# Altium integrated library Renesas Transistor.IntLib: 835 symbols (part 13 of 18)
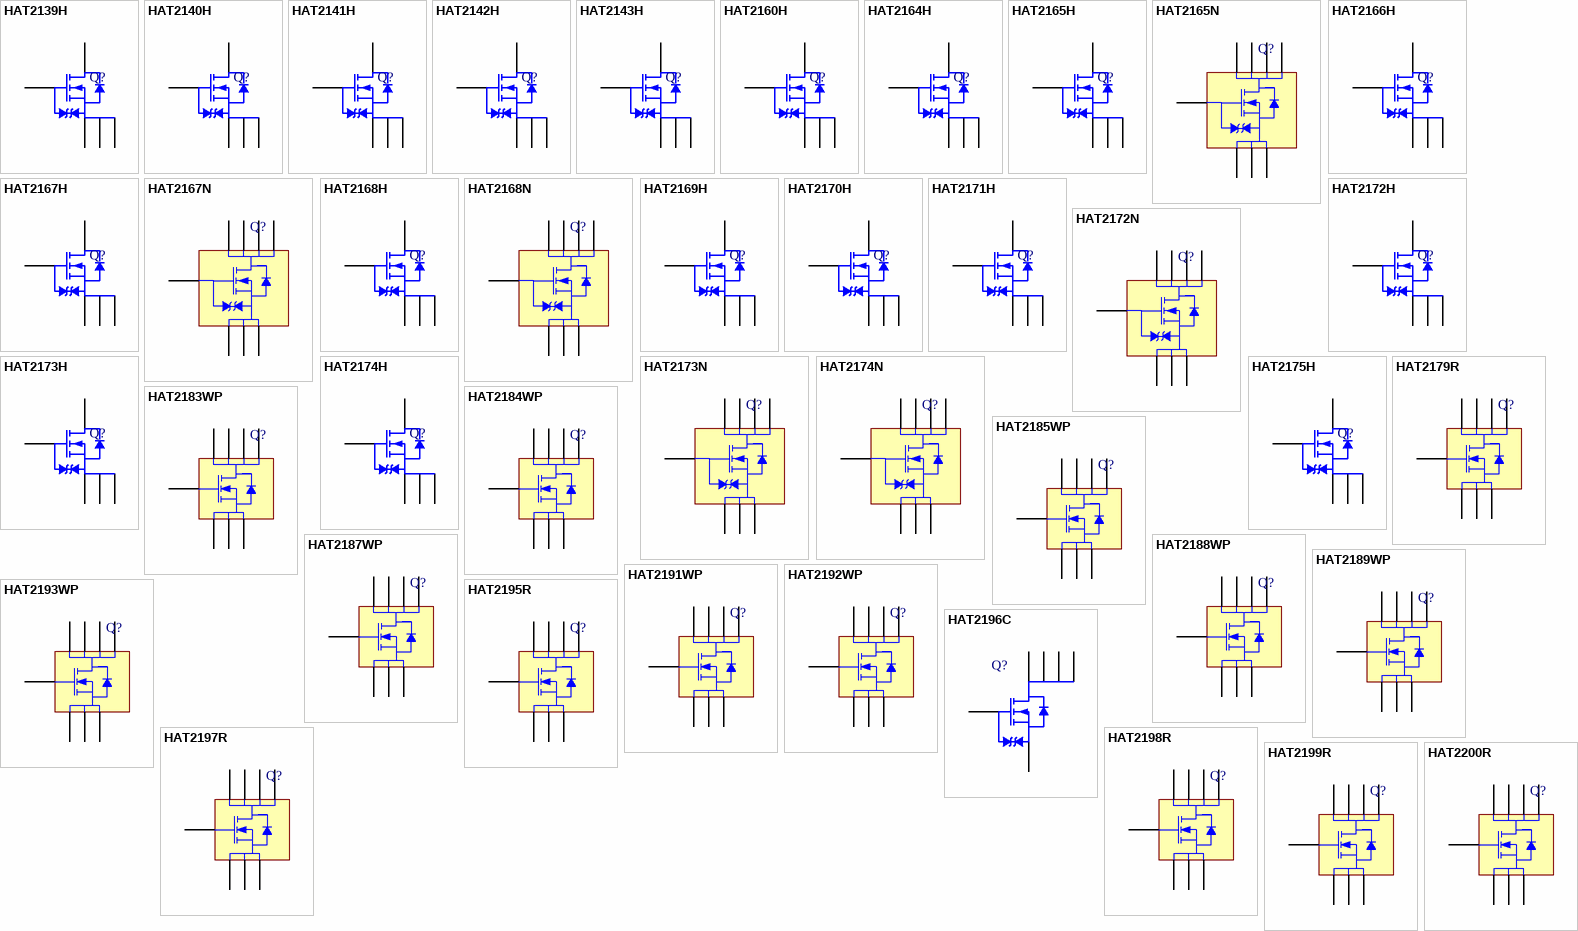
[diagram p34: symbols HAT2139H to HAT2200R]

## HAT2172N
designator Q?
Silicon N-Channel Power MOSFET, Power Switching; Published: 30-Oct-2009; DatasheetVersion: Rev.1.00, May-2008; PackageVersion: Jul-2006; PackageReference: PTSP0008DC-A; Publisher: Altium Limited; PackageDescription: 8-Pin Plastic Small Outline Integrated Circuit 1.27 mm Pitch (LFPAK-i); Supplier 1: Digi-Key; Supplier Part Number 1: HAT2172N-ND; ComponentLink1Description: Manufacturer Link; ComponentLink1URL: http://sg.renesas.com/fmwk.jsp?cnt=discrete_category_landing.jsp&fp=/products/discrete/; ComponentLink2Description: Datasheet; ComponentLink2URL: http://documentation.renesas.com/eng/products/transistor/rej03g1683_hat2172nsds.pdf; ComponentLink3Description: Packaging Specification; ComponentLink3URL: http://sg.renesas.com/media/products/common_info/package/pdf/transistor/code/ptsp0008dc_a.pdf
footprint PTSP0008DC-A_N (SOIC, 8-Leads, Body 4.9x3.95mm, Pitch 1.27mm, IPC Medium Density)
footprint PTSP0008DC-A_L (SOIC, 8-Leads, Body 4.9x3.95mm, Pitch 1.27mm, IPC High Density)
footprint PTSP0008DC-A_M (SOIC, 8-Leads, Body 4.9x3.95mm, Pitch 1.27mm, IPC Low Density)
pins: 1 S, 2 S, 3 S, 4 G, 5 D, 6 D, 7 D, 8 D

## HAT2173H
designator Q?
Silicon N-Channel Power MOSFET, Power Switching; Published: 30-Oct-2009; DatasheetVersion: Rev.2.00, Sep-2005; PackageVersion: Sep-2005; PackageReference: PTZZ0005DA-A; Publisher: Altium Limited; PackageDescription: 5-Pin Plastic Transistor Outline Package 4 x 4.9 mm Body (LFPAK); Supplier 1: Digi-Key; Supplier Part Number 1: HAT2173H-ND; Code_JEITA: SC-100; ComponentLink1Description: Manufacturer Link; ComponentLink1URL: http://sg.renesas.com/fmwk.jsp?cnt=discrete_category_landing.jsp&fp=/products/discrete/; ComponentLink2Description: Datasheet; ComponentLink2URL: http://documentation.renesas.com/eng/products/transistor/rej03g0030_hat2173h.pdf; ComponentLink3Description: Packaging Specification; ComponentLink3URL: http://sg.renesas.com/media/products/common_info/package/pdf/transistor/code/ptzz0005da_a.pdf
footprint PTZZ0005DA-A_N (TO, 5-Leads, Body 4x4.9mm, Pitch 1.27mm, Lead Span 6mm, IPC Medium Density)
footprint PTZZ0005DA-A_L (TO, 5-Leads, Body 4x4.9mm, Pitch 1.27mm, Lead Span 6mm, IPC High Density)
footprint PTZZ0005DA-A_M (TO, 5-Leads, Body 4x4.9mm, Pitch 1.27mm, Lead Span 6mm, IPC Low Density)
pins: 1 S, 2 S, 3 S, 4 G, 5 D

## HAT2173N
designator Q?
Silicon N-Channel Power MOSFET, Power Switching; Published: 30-Oct-2009; DatasheetVersion: Rev.1.00, May-2008; PackageVersion: Jul-2006; PackageReference: PTSP0008DC-A; Publisher: Altium Limited; PackageDescription: 8-Pin Plastic Small Outline Integrated Circuit 1.27 mm Pitch (LFPAK-i); Supplier 1: Digi-Key; Supplier Part Number 1: HAT2173N-ND; ComponentLink1Description: Manufacturer Link; ComponentLink1URL: http://sg.renesas.com/fmwk.jsp?cnt=discrete_category_landing.jsp&fp=/products/discrete/; ComponentLink2Description: Datasheet; ComponentLink2URL: http://documentation.renesas.com/eng/products/transistor/rej03g1684_hat2173nds.pdf; ComponentLink3Description: Packaging Specification; ComponentLink3URL: http://sg.renesas.com/media/products/common_info/package/pdf/transistor/code/ptsp0008dc_a.pdf
footprint PTSP0008DC-A_N (SOIC, 8-Leads, Body 4.9x3.95mm, Pitch 1.27mm, IPC Medium Density)
footprint PTSP0008DC-A_L (SOIC, 8-Leads, Body 4.9x3.95mm, Pitch 1.27mm, IPC High Density)
footprint PTSP0008DC-A_M (SOIC, 8-Leads, Body 4.9x3.95mm, Pitch 1.27mm, IPC Low Density)
pins: 1 S, 2 S, 3 S, 4 G, 5 D, 6 D, 7 D, 8 D

## HAT2174H
designator Q?
Silicon N-Channel Power MOSFET, Power Switching; Published: 30-Oct-2009; DatasheetVersion: Rev.4.00, Dec-2006; PackageVersion: Sep-2005; PackageReference: PTZZ0005DA-A; Publisher: Altium Limited; PackageDescription: 5-Pin Plastic Transistor Outline Package 4 x 4.9 mm Body (LFPAK); Supplier 1: Digi-Key; Supplier Part Number 1: HAT2174H-ND; Code_JEITA: SC-100; ComponentLink1Description: Manufacturer Link; ComponentLink1URL: http://sg.renesas.com/fmwk.jsp?cnt=discrete_category_landing.jsp&fp=/products/discrete/; ComponentLink2Description: Datasheet; ComponentLink2URL: http://documentation.renesas.com/eng/products/transistor/rej03g0041_hat2174h.pdf; ComponentLink3Description: Packaging Specification; ComponentLink3URL: http://sg.renesas.com/media/products/common_info/package/pdf/transistor/code/ptzz0005da_a.pdf
footprint PTZZ0005DA-A_N (TO, 5-Leads, Body 4x4.9mm, Pitch 1.27mm, Lead Span 6mm, IPC Medium Density)
footprint PTZZ0005DA-A_L (TO, 5-Leads, Body 4x4.9mm, Pitch 1.27mm, Lead Span 6mm, IPC High Density)
footprint PTZZ0005DA-A_M (TO, 5-Leads, Body 4x4.9mm, Pitch 1.27mm, Lead Span 6mm, IPC Low Density)
pins: 1 S, 2 S, 3 S, 4 G, 5 D

## HAT2174N
designator Q?
Silicon N-Channel Power MOSFET, Power Switching; Published: 30-Oct-2009; DatasheetVersion: Rev.2.00, May-2008; PackageVersion: Jul-2006; PackageReference: PTSP0008DC-A; Publisher: Altium Limited; PackageDescription: 8-Pin Plastic Small Outline Integrated Circuit 1.27 mm Pitch (LFPAK-i); ComponentLink1Description: Manufacturer Link; ComponentLink1URL: http://sg.renesas.com/fmwk.jsp?cnt=discrete_category_landing.jsp&fp=/products/discrete/; ComponentLink2Description: Datasheet; ComponentLink2URL: http://documentation.renesas.com/eng/products/transistor/rej03g1685_hat2174nsds.pdf; ComponentLink3Description: Packaging Specification; ComponentLink3URL: http://sg.renesas.com/media/products/common_info/package/pdf/transistor/code/ptsp0008dc_a.pdf
footprint PTSP0008DC-A_N (SOIC, 8-Leads, Body 4.9x3.95mm, Pitch 1.27mm, IPC Medium Density)
footprint PTSP0008DC-A_L (SOIC, 8-Leads, Body 4.9x3.95mm, Pitch 1.27mm, IPC High Density)
footprint PTSP0008DC-A_M (SOIC, 8-Leads, Body 4.9x3.95mm, Pitch 1.27mm, IPC Low Density)
pins: 1 S, 2 S, 3 S, 4 G, 5 D, 6 D, 7 D, 8 D

## HAT2175H
designator Q?
Silicon N-Channel Power MOSFET, Power Switching; Published: 30-Oct-2009; DatasheetVersion: Rev.4.00, Sep-2005; PackageVersion: Sep-2005; PackageReference: PTZZ0005DA-A; Publisher: Altium Limited; PackageDescription: 5-Pin Plastic Transistor Outline Package 4 x 4.9 mm Body (LFPAK); Code_JEITA: SC-100; ComponentLink1Description: Manufacturer Link; ComponentLink1URL: http://sg.renesas.com/fmwk.jsp?cnt=discrete_category_landing.jsp&fp=/products/discrete/; ComponentLink2Description: Datasheet; ComponentLink2URL: http://documentation.renesas.com/eng/products/transistor/rej03g0006_hat2175h.pdf; ComponentLink3Description: Packaging Specification; ComponentLink3URL: http://sg.renesas.com/media/products/common_info/package/pdf/transistor/code/ptzz0005da_a.pdf
footprint PTZZ0005DA-A_N (TO, 5-Leads, Body 4x4.9mm, Pitch 1.27mm, Lead Span 6mm, IPC Medium Density)
footprint PTZZ0005DA-A_L (TO, 5-Leads, Body 4x4.9mm, Pitch 1.27mm, Lead Span 6mm, IPC High Density)
footprint PTZZ0005DA-A_M (TO, 5-Leads, Body 4x4.9mm, Pitch 1.27mm, Lead Span 6mm, IPC Low Density)
pins: 1 S, 2 S, 3 S, 4 G, 5 D

## HAT2179R
designator Q?
Silicon N-Channel MOSFET, High Speed Power Switching; Published: 30-Oct-2009; DatasheetVersion: Rev.2.00, Jul-2009; PackageVersion: Sep-2005; PackageReference: PRSP0008DD-D; Publisher: Altium Limited; PackageDescription: 8-Pin Plastic Small Outline Integrated Circuit 1.27 mm Pitch (SOP-8); Code_IPC: SOIC127P600-8; ComponentLink1Description: Manufacturer Link; ComponentLink1URL: http://sg.renesas.com/fmwk.jsp?cnt=discrete_category_landing.jsp&fp=/products/discrete/; ComponentLink2Description: Datasheet; ComponentLink2URL: http://documentation.renesas.com/eng/products/transistor/rej03g1570_hat2179rds.pdf; ComponentLink3Description: Packaging Specification; ComponentLink3URL: http://sg.renesas.com/media/products/common_info/package/pdf/transistor/code/prsp0008dd_d.pdf
footprint PRSP0008DD-D_N (SOIC, 8-Leads, Body 4.9x3.95mm, Pitch 1.27mm, IPC Medium Density)
footprint PRSP0008DD-D_L (SOIC, 8-Leads, Body 4.9x3.95mm, Pitch 1.27mm, IPC High Density)
footprint PRSP0008DD-D_M (SOIC, 8-Leads, Body 4.9x3.95mm, Pitch 1.27mm, IPC Low Density)
pins: 1 S, 2 S, 3 S, 4 G, 5 D, 6 D, 7 D, 8 D

## HAT2183WP
designator Q?
Silicon N-Channel Power MOSFET, Power Switching; Published: 30-Oct-2009; DatasheetVersion: Rev.5.00, Oct-2005; PackageVersion: Feb-2006; PackageReference: PWSN0008DA-A; Publisher: Altium Limited; PackageDescription: 8-Pin Plastic Very-very Thin Small Outline No Lead Package, 5.1 x 6.1 x 0.8mm Body, 1.27mm Pitch (WPAK); Supplier 1: Digi-Key; Supplier Part Number 1: HAT2183WP-ND; ComponentLink1Description: Manufacturer Link; ComponentLink1URL: http://sg.renesas.com/fmwk.jsp?cnt=discrete_category_landing.jsp&fp=/products/discrete/; ComponentLink2Description: Datasheet; ComponentLink2URL: http://documentation.renesas.com/eng/products/transistor/rej03g0530_hat2183wp.pdf; ComponentLink3Description: Packaging Specification; ComponentLink3URL: http://sg.renesas.com/media/products/common_info/package/pdf/transistor/code/pwsn0008da_a.pdf
footprint PWSN0008DA-A (SON, 8-Leads, Body 5.1x6.1mm, Pitch 1.27mm, Heatsink)
pins: 1 S, 2 S, 3 S, 4 G, 5 D, 6 D, 7 D, 8 D

## HAT2184WP
designator Q?
Silicon N-Channel Power MOSFET, Power Switching; Published: 30-Oct-2009; DatasheetVersion: Rev.5.00, Nov-2006; PackageVersion: Feb-2006; PackageReference: PWSN0008DA-A; Publisher: Altium Limited; PackageDescription: 8-Pin Plastic Very-very Thin Small Outline No Lead Package, 5.1 x 6.1 x 0.8mm Body, 1.27mm Pitch (WPAK); ComponentLink1Description: Manufacturer Link; ComponentLink1URL: http://sg.renesas.com/fmwk.jsp?cnt=discrete_category_landing.jsp&fp=/products/discrete/; ComponentLink2Description: Datasheet; ComponentLink2URL: http://documentation.renesas.com/eng/products/transistor/rej03g0536_hat2184wp.pdf; ComponentLink3Description: Packaging Specification; ComponentLink3URL: http://sg.renesas.com/media/products/common_info/package/pdf/transistor/code/pwsn0008da_a.pdf
footprint PWSN0008DA-A (SON, 8-Leads, Body 5.1x6.1mm, Pitch 1.27mm, Heatsink)
pins: 1 S, 2 S, 3 S, 4 G, 5 D, 6 D, 7 D, 8 D

## HAT2185WP
designator Q?
Silicon N-Channel Power MOSFET, Power Switching; Published: 30-Oct-2009; DatasheetVersion: Rev.2.00, Nov-2008; PackageVersion: Feb-2006; PackageReference: PWSN0008DA-A; Publisher: Altium Limited; PackageDescription: 8-Pin Plastic Very-very Thin Small Outline No Lead Package, 5.1 x 6.1 x 0.8mm Body, 1.27mm Pitch (WPAK); ComponentLink1Description: Manufacturer Link; ComponentLink1URL: http://sg.renesas.com/fmwk.jsp?cnt=discrete_category_landing.jsp&fp=/products/discrete/; ComponentLink2Description: Datasheet; ComponentLink2URL: http://documentation.renesas.com/eng/products/transistor/rej03g1744_hat2185wpds.pdf; ComponentLink3Description: Packaging Specification; ComponentLink3URL: http://sg.renesas.com/media/products/common_info/package/pdf/transistor/code/pwsn0008da_a.pdf
footprint PWSN0008DA-A (SON, 8-Leads, Body 5.1x6.1mm, Pitch 1.27mm, Heatsink)
pins: 1 S, 2 S, 3 S, 4 G, 5 D, 6 D, 7 D, 8 D

## HAT2187WP
designator Q?
Silicon N-Channel Power MOSFET, Power Switching; Published: 30-Oct-2009; DatasheetVersion: Rev.4.00, Feb-2005; PackageVersion: Feb-2006; PackageReference: PWSN0008DA-A; Publisher: Altium Limited; PackageDescription: 8-Pin Plastic Very-very Thin Small Outline No Lead Package, 5.1 x 6.1 x 0.8mm Body, 1.27mm Pitch (WPAK); ComponentLink1Description: Manufacturer Link; ComponentLink1URL: http://sg.renesas.com/fmwk.jsp?cnt=discrete_category_landing.jsp&fp=/products/discrete/; ComponentLink2Description: Datasheet; ComponentLink2URL: http://documentation.renesas.com/eng/products/transistor/rej03g0535_hat2187wp.pdf; ComponentLink3Description: Packaging Specification; ComponentLink3URL: http://sg.renesas.com/media/products/common_info/package/pdf/transistor/code/pwsn0008da_a.pdf
footprint PWSN0008DA-A (SON, 8-Leads, Body 5.1x6.1mm, Pitch 1.27mm, Heatsink)
pins: 1 S, 2 S, 3 S, 4 G, 5 D, 6 D, 7 D, 8 D

## HAT2188WP
designator Q?
Silicon N-Channel Power MOSFET, Power Switching; Published: 30-Oct-2009; DatasheetVersion: Rev.5.00, Mar-2005; PackageVersion: Feb-2006; PackageReference: PWSN0008DA-A; Publisher: Altium Limited; PackageDescription: 8-Pin Plastic Very-very Thin Small Outline No Lead Package, 5.1 x 6.1 x 0.8mm Body, 1.27mm Pitch (WPAK); ComponentLink1Description: Manufacturer Link; ComponentLink1URL: http://sg.renesas.com/fmwk.jsp?cnt=discrete_category_landing.jsp&fp=/products/discrete/; ComponentLink2Description: Datasheet; ComponentLink2URL: http://documentation.renesas.com/eng/products/transistor/rej03g0534_hat2188wp.pdf; ComponentLink3Description: Packaging Specification; ComponentLink3URL: http://sg.renesas.com/media/products/common_info/package/pdf/transistor/code/pwsn0008da_a.pdf
footprint PWSN0008DA-A (SON, 8-Leads, Body 5.1x6.1mm, Pitch 1.27mm, Heatsink)
pins: 1 S, 2 S, 3 S, 4 G, 5 D, 6 D, 7 D, 8 D

## HAT2189WP
designator Q?
Silicon N-Channel Power MOSFET, Power Switching; Published: 30-Oct-2009; DatasheetVersion: Rev.1.00, Aug-2005; PackageVersion: Feb-2006; PackageReference: PWSN0008DA-A; Publisher: Altium Limited; PackageDescription: 8-Pin Plastic Very-very Thin Small Outline No Lead Package, 5.1 x 6.1 x 0.8mm Body, 1.27mm Pitch (WPAK); ComponentLink1Description: Manufacturer Link; ComponentLink1URL: http://sg.renesas.com/fmwk.jsp?cnt=discrete_category_landing.jsp&fp=/products/discrete/; ComponentLink2Description: Datasheet; ComponentLink2URL: http://documentation.renesas.com/eng/products/transistor/rej03g1251_hat2189wp.pdf; ComponentLink3Description: Packaging Specification; ComponentLink3URL: http://sg.renesas.com/media/products/common_info/package/pdf/transistor/code/pwsn0008da_a.pdf
footprint PWSN0008DA-A (SON, 8-Leads, Body 5.1x6.1mm, Pitch 1.27mm, Heatsink)
pins: 1 S, 2 S, 3 S, 4 G, 5 D, 6 D, 7 D, 8 D

## HAT2191WP
designator Q?
Silicon N-Channel Power MOSFET, Power Switching; Published: 30-Oct-2009; DatasheetVersion: Rev.5.00, Jun-2005; PackageVersion: Feb-2006; PackageReference: PWSN0008DA-A; Publisher: Altium Limited; PackageDescription: 8-Pin Plastic Very-very Thin Small Outline No Lead Package, 5.1 x 6.1 x 0.8mm Body, 1.27mm Pitch (WPAK); ComponentLink1Description: Manufacturer Link; ComponentLink1URL: http://sg.renesas.com/fmwk.jsp?cnt=discrete_category_landing.jsp&fp=/products/discrete/; ComponentLink2Description: Datasheet; ComponentLink2URL: http://documentation.renesas.com/eng/products/transistor/rej03g1223_hat2191wp.pdf; ComponentLink3Description: Packaging Specification; ComponentLink3URL: http://sg.renesas.com/media/products/common_info/package/pdf/transistor/code/pwsn0008da_a.pdf
footprint PWSN0008DA-A (SON, 8-Leads, Body 5.1x6.1mm, Pitch 1.27mm, Heatsink)
pins: 1 S, 2 S, 3 S, 4 G, 5 D, 6 D, 7 D, 8 D

## HAT2192WP
designator Q?
Silicon N-Channel Power MOSFET, Power Switching; Published: 30-Oct-2009; DatasheetVersion: Rev.1.00, Feb-2005; PackageVersion: Feb-2006; PackageReference: PWSN0008DA-A; Publisher: Altium Limited; PackageDescription: 8-Pin Plastic Very-very Thin Small Outline No Lead Package, 5.1 x 6.1 x 0.8mm Body, 1.27mm Pitch (WPAK); ComponentLink1Description: Manufacturer Link; ComponentLink1URL: http://sg.renesas.com/fmwk.jsp?cnt=discrete_category_landing.jsp&fp=/products/discrete/; ComponentLink2Description: Datasheet; ComponentLink2URL: http://documentation.renesas.com/eng/products/transistor/rej03g0533_hat2192wp.pdf; ComponentLink3Description: Packaging Specification; ComponentLink3URL: http://sg.renesas.com/media/products/common_info/package/pdf/transistor/code/pwsn0008da_a.pdf
footprint PWSN0008DA-A (SON, 8-Leads, Body 5.1x6.1mm, Pitch 1.27mm, Heatsink)
pins: 1 S, 2 S, 3 S, 4 G, 5 D, 6 D, 7 D, 8 D

## HAT2193WP
designator Q?
Silicon N-Channel Power MOSFET, Power Switching; Published: 30-Oct-2009; DatasheetVersion: Rev.2.00, Jun-2009; PackageVersion: Feb-2006; PackageReference: PWSN0008DA-A; Publisher: Altium Limited; PackageDescription: 8-Pin Plastic Very-very Thin Small Outline No Lead Package, 5.1 x 6.1 x 0.8mm Body, 1.27mm Pitch (WPAK); ComponentLink1Description: Manufacturer Link; ComponentLink1URL: http://sg.renesas.com/fmwk.jsp?cnt=discrete_category_landing.jsp&fp=/products/discrete/; ComponentLink2Description: Datasheet; ComponentLink2URL: http://documentation.renesas.com/eng/products/transistor/rej03g1252_hat2193wp.pdf; ComponentLink3Description: Packaging Specification; ComponentLink3URL: http://sg.renesas.com/media/products/common_info/package/pdf/transistor/code/pwsn0008da_a.pdf
footprint PWSN0008DA-A (SON, 8-Leads, Body 5.1x6.1mm, Pitch 1.27mm, Heatsink)
pins: 1 S, 2 S, 3 S, 4 G, 5 D, 6 D, 7 D, 8 D

## HAT2195R
designator Q?
Silicon N-Channel Power MOSFET, Power Switching; Published: 30-Oct-2009; DatasheetVersion: Rev.3.00, Apr-2004; PackageVersion: Sep-2005; PackageReference: PRSP0008DD-A; Publisher: Altium Limited; PackageDescription: 8-Pin Plastic Small Outline Integrated Circuit 1.27 mm Pitch (SOP-8); Supplier 1: Digi-Key; Supplier Part Number 1: HAT2195R-ND; Code_IPC: SOIC127P600-8; ComponentLink1Description: Manufacturer Link; ComponentLink1URL: http://sg.renesas.com/fmwk.jsp?cnt=discrete_category_landing.jsp&fp=/products/discrete/; ComponentLink2Description: Datasheet; ComponentLink2URL: http://documentation.renesas.com/eng/products/transistor/rej03g0060_hat2195r.pdf; ComponentLink3Description: Packaging Specification; ComponentLink3URL: http://sg.renesas.com/media/products/common_info/package/pdf/transistor/code/prsp0008dd_a.pdf
footprint PRSP0008DD-A_N (SOIC, 8-Leads, Body 4.9x3.95mm, Pitch 1.27mm, IPC Medium Density)
footprint PRSP0008DD-A_L (SOIC, 8-Leads, Body 4.9x3.95mm, Pitch 1.27mm, IPC High Density)
footprint PRSP0008DD-A_M (SOIC, 8-Leads, Body 4.9x3.95mm, Pitch 1.27mm, IPC Low Density)
pins: 1 S, 2 S, 3 S, 4 G, 5 D, 6 D, 7 D, 8 D

## HAT2196C
designator Q?
Silicon N-Channel MOSFET, Power Switching; Published: 30-Oct-2009; DatasheetVersion: Rev.5.00, Jun-2005; PackageVersion: Jul-2006; PackageReference: PWSF0006JA-A; Publisher: Altium Limited; PackageDescription: 6-Pin Plastic Dual Lead-Flat Package 0.65 mm Pitch (CMFPAK-6); ComponentLink1Description: Manufacturer Link; ComponentLink1URL: http://sg.renesas.com/fmwk.jsp?cnt=discrete_category_landing.jsp&fp=/products/discrete/; ComponentLink2Description: Datasheet; ComponentLink2URL: http://documentation.renesas.com/eng/products/transistor/rej03g1235_hat2196c.pdf; ComponentLink3Description: Packaging Specification; ComponentLink3URL: http://sg.renesas.com/media/products/common_info/package/pdf/transistor/code/pwsf0006ja_a.pdf
footprint PWSF0006JA-A (SOP, 6-Flat Leads, Body 2x1.7x0.8mm, Pitch 0.65mm)
pins: 1 S, 2 D, 3 D, 4 D, 5 D, 6 G

## HAT2197R
designator Q?
Silicon N-Channel Power MOSFET, Power Switching; Published: 30-Oct-2009; DatasheetVersion: Rev.2.00, Apr-2004; PackageVersion: Sep-2005; PackageReference: PRSP0008DD-A; Publisher: Altium Limited; PackageDescription: 8-Pin Plastic Small Outline Integrated Circuit 1.27 mm Pitch (SOP-8); Supplier 1: Digi-Key; Supplier Part Number 1: HAT2197R-ND; Code_IPC: SOIC127P600-8; ComponentLink1Description: Manufacturer Link; ComponentLink1URL: http://sg.renesas.com/fmwk.jsp?cnt=discrete_category_landing.jsp&fp=/products/discrete/; ComponentLink2Description: Datasheet; ComponentLink2URL: http://documentation.renesas.com/eng/products/transistor/rej03g0061_hat2197r.pdf; ComponentLink3Description: Packaging Specification; ComponentLink3URL: http://sg.renesas.com/media/products/common_info/package/pdf/transistor/code/prsp0008dd_a.pdf
footprint PRSP0008DD-A_N (SOIC, 8-Leads, Body 4.9x3.95mm, Pitch 1.27mm, IPC Medium Density)
footprint PRSP0008DD-A_L (SOIC, 8-Leads, Body 4.9x3.95mm, Pitch 1.27mm, IPC High Density)
footprint PRSP0008DD-A_M (SOIC, 8-Leads, Body 4.9x3.95mm, Pitch 1.27mm, IPC Low Density)
pins: 1 S, 2 S, 3 S, 4 G, 5 D, 6 D, 7 D, 8 D

## HAT2198R
designator Q?
Silicon N-Channel Power MOSFET, Power Switching; Published: 30-Oct-2009; DatasheetVersion: Rev.2.00, Oct-2004; PackageVersion: Sep-2005; PackageReference: PRSP0008DD-A; Publisher: Altium Limited; PackageDescription: 8-Pin Plastic Small Outline Integrated Circuit 1.27 mm Pitch (SOP-8); Supplier 1: Digi-Key; Supplier Part Number 1: HAT2198R-ND; Code_IPC: SOIC127P600-8; ComponentLink1Description: Manufacturer Link; ComponentLink1URL: http://sg.renesas.com/fmwk.jsp?cnt=discrete_category_landing.jsp&fp=/products/discrete/; ComponentLink2Description: Datasheet; ComponentLink2URL: http://documentation.renesas.com/eng/products/transistor/rej03g0062_hat2198r.pdf; ComponentLink3Description: Packaging Specification; ComponentLink3URL: http://sg.renesas.com/media/products/common_info/package/pdf/transistor/code/prsp0008dd_a.pdf
footprint PRSP0008DD-A_N (SOIC, 8-Leads, Body 4.9x3.95mm, Pitch 1.27mm, IPC Medium Density)
footprint PRSP0008DD-A_L (SOIC, 8-Leads, Body 4.9x3.95mm, Pitch 1.27mm, IPC High Density)
footprint PRSP0008DD-A_M (SOIC, 8-Leads, Body 4.9x3.95mm, Pitch 1.27mm, IPC Low Density)
pins: 1 S, 2 S, 3 S, 4 G, 5 D, 6 D, 7 D, 8 D

## HAT2199R
designator Q?
Silicon N-Channel Power MOSFET, Power Switching; Published: 30-Oct-2009; DatasheetVersion: Rev.3.00, Sep-2004; PackageVersion: Sep-2005; PackageReference: PRSP0008DD-A; Publisher: Altium Limited; PackageDescription: 8-Pin Plastic Small Outline Integrated Circuit 1.27 mm Pitch (SOP-8); Supplier 1: Digi-Key; Supplier Part Number 1: HAT2199R-ND; Code_IPC: SOIC127P600-8; ComponentLink1Description: Manufacturer Link; ComponentLink1URL: http://sg.renesas.com/fmwk.jsp?cnt=discrete_category_landing.jsp&fp=/products/discrete/; ComponentLink2Description: Datasheet; ComponentLink2URL: http://documentation.renesas.com/eng/products/transistor/rej03g0063_hat2199r.pdf; ComponentLink3Description: Packaging Specification; ComponentLink3URL: http://sg.renesas.com/media/products/common_info/package/pdf/transistor/code/prsp0008dd_a.pdf
footprint PRSP0008DD-A_N (SOIC, 8-Leads, Body 4.9x3.95mm, Pitch 1.27mm, IPC Medium Density)
footprint PRSP0008DD-A_L (SOIC, 8-Leads, Body 4.9x3.95mm, Pitch 1.27mm, IPC High Density)
footprint PRSP0008DD-A_M (SOIC, 8-Leads, Body 4.9x3.95mm, Pitch 1.27mm, IPC Low Density)
pins: 1 S, 2 S, 3 S, 4 G, 5 D, 6 D, 7 D, 8 D

## HAT2200R
designator Q?
Silicon N-Channel Power MOSFET, Power Switching; Published: 30-Oct-2009; DatasheetVersion: Rev.2.00, Apr-2004; PackageVersion: Sep-2005; PackageReference: PRSP0008DD-A; Publisher: Altium Limited; PackageDescription: 8-Pin Plastic Small Outline Integrated Circuit 1.27 mm Pitch (SOP-8); Supplier 1: Digi-Key; Supplier Part Number 1: HAT2200R-ND; Code_IPC: SOIC127P600-8; ComponentLink1Description: Manufacturer Link; ComponentLink1URL: http://sg.renesas.com/fmwk.jsp?cnt=discrete_category_landing.jsp&fp=/products/discrete/; ComponentLink2Description: Datasheet; ComponentLink2URL: http://documentation.renesas.com/eng/products/transistor/rej03g0232_hat2200r.pdf; ComponentLink3Description: Packaging Specification; ComponentLink3URL: http://sg.renesas.com/media/products/common_info/package/pdf/transistor/code/prsp0008dd_a.pdf
footprint PRSP0008DD-A_N (SOIC, 8-Leads, Body 4.9x3.95mm, Pitch 1.27mm, IPC Medium Density)
footprint PRSP0008DD-A_L (SOIC, 8-Leads, Body 4.9x3.95mm, Pitch 1.27mm, IPC High Density)
footprint PRSP0008DD-A_M (SOIC, 8-Leads, Body 4.9x3.95mm, Pitch 1.27mm, IPC Low Density)
pins: 1 S, 2 S, 3 S, 4 G, 5 D, 6 D, 7 D, 8 D

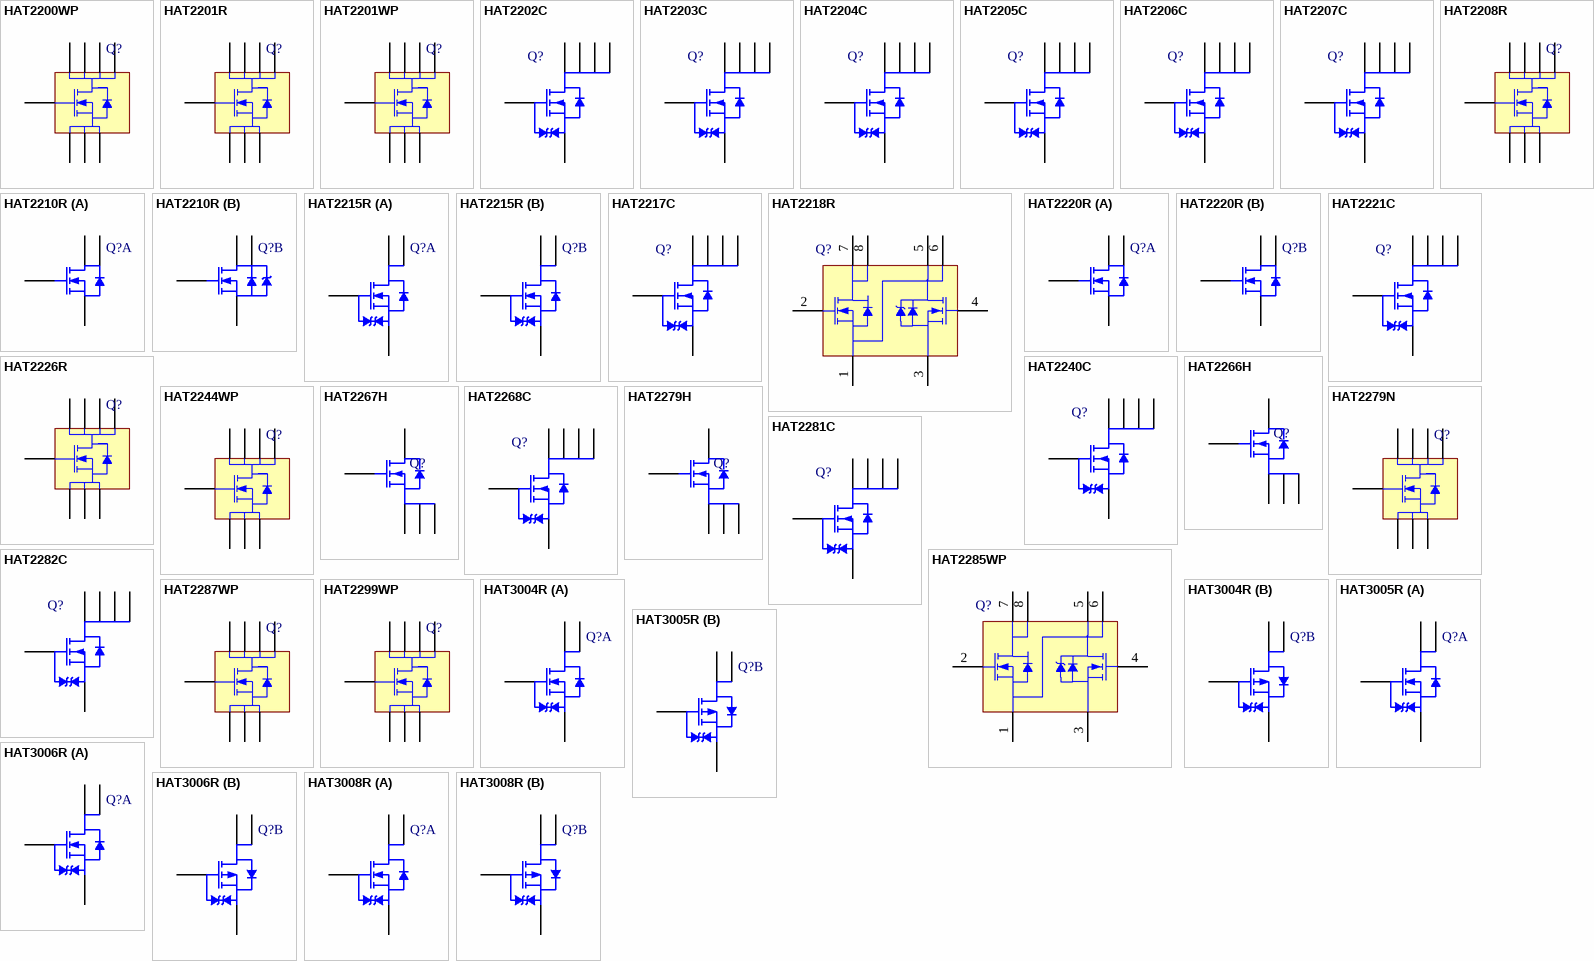
[diagram p16: symbols HAT2200WP to HAT3008R]

## HAT2200WP
designator Q?
Silicon N-Channel Power MOSFET, Power Switching; Published: 30-Oct-2009; DatasheetVersion: Rev.3.00, May-2008; PackageVersion: Feb-2006; PackageReference: PWSN0008DA-A; Publisher: Altium Limited; PackageDescription: 8-Pin Plastic Very-very Thin Small Outline No Lead Package, 5.1 x 6.1 x 0.8mm Body, 1.27mm Pitch (WPAK); Supplier 1: Digi-Key; Supplier Part Number 1: HAT2200WP-ND; ComponentLink1Description: Manufacturer Link; ComponentLink1URL: http://sg.renesas.com/fmwk.jsp?cnt=discrete_category_landing.jsp&fp=/products/discrete/; ComponentLink2Description: Datasheet; ComponentLink2URL: http://documentation.renesas.com/eng/products/transistor/rej03g1678_hat2200wpds.pdf; ComponentLink3Description: Packaging Specification; ComponentLink3URL: http://sg.renesas.com/media/products/common_info/package/pdf/transistor/code/pwsn0008da_a.pdf
footprint PWSN0008DA-A (SON, 8-Leads, Body 5.1x6.1mm, Pitch 1.27mm, Heatsink)
pins: 1 S, 2 S, 3 S, 4 G, 5 D, 6 D, 7 D, 8 D

## HAT2201R
designator Q?
Silicon N-Channel Power MOSFET, Power Switching; Published: 30-Oct-2009; DatasheetVersion: Rev.3.00, Apr-2004; PackageVersion: Sep-2005; PackageReference: PRSP0008DD-A; Publisher: Altium Limited; PackageDescription: 8-Pin Plastic Small Outline Integrated Circuit 1.27 mm Pitch (SOP-8); Supplier 1: Digi-Key; Supplier Part Number 1: HAT2201R-ND; Code_IPC: SOIC127P600-8; ComponentLink1Description: Manufacturer Link; ComponentLink1URL: http://sg.renesas.com/fmwk.jsp?cnt=discrete_category_landing.jsp&fp=/products/discrete/; ComponentLink2Description: Datasheet; ComponentLink2URL: http://documentation.renesas.com/eng/products/transistor/rej03g0233_hat2201r.pdf; ComponentLink3Description: Packaging Specification; ComponentLink3URL: http://sg.renesas.com/media/products/common_info/package/pdf/transistor/code/prsp0008dd_a.pdf
footprint PRSP0008DD-A_N (SOIC, 8-Leads, Body 4.9x3.95mm, Pitch 1.27mm, IPC Medium Density)
footprint PRSP0008DD-A_L (SOIC, 8-Leads, Body 4.9x3.95mm, Pitch 1.27mm, IPC High Density)
footprint PRSP0008DD-A_M (SOIC, 8-Leads, Body 4.9x3.95mm, Pitch 1.27mm, IPC Low Density)
pins: 1 S, 2 S, 3 S, 4 G, 5 D, 6 D, 7 D, 8 D

## HAT2201WP
designator Q?
Silicon N-Channel Power MOSFET, Power Switching; Published: 30-Oct-2009; DatasheetVersion: Rev.3.00, May-2008; PackageVersion: Feb-2006; PackageReference: PWSN0008DA-A; Publisher: Altium Limited; PackageDescription: 8-Pin Plastic Very-very Thin Small Outline No Lead Package, 5.1 x 6.1 x 0.8mm Body, 1.27mm Pitch (WPAK); Supplier 1: Digi-Key; Supplier Part Number 1: HAT2201WP-ND; ComponentLink1Description: Manufacturer Link; ComponentLink1URL: http://sg.renesas.com/fmwk.jsp?cnt=discrete_category_landing.jsp&fp=/products/discrete/; ComponentLink2Description: Datasheet; ComponentLink2URL: http://documentation.renesas.com/eng/products/transistor/rej03g1679_hat2201wpds.pdf; ComponentLink3Description: Packaging Specification; ComponentLink3URL: http://sg.renesas.com/media/products/common_info/package/pdf/transistor/code/pwsn0008da_a.pdf
footprint PWSN0008DA-A (SON, 8-Leads, Body 5.1x6.1mm, Pitch 1.27mm, Heatsink)
pins: 1 S, 2 S, 3 S, 4 G, 5 D, 6 D, 7 D, 8 D

## HAT2202C
designator Q?
Silicon N-Channel MOSFET, Power Switching; Published: 30-Oct-2009; DatasheetVersion: Rev.5.00, Jan-2006; PackageVersion: Jul-2006; PackageReference: PWSF0006JA-A; Publisher: Altium Limited; PackageDescription: 6-Pin Plastic Dual Lead-Flat Package 0.65 mm Pitch (CMFPAK-6); ComponentLink1Description: Manufacturer Link; ComponentLink1URL: http://sg.renesas.com/fmwk.jsp?cnt=discrete_category_landing.jsp&fp=/products/discrete/; ComponentLink2Description: Datasheet; ComponentLink2URL: http://documentation.renesas.com/eng/products/transistor/rej03g1236_hat2202c.pdf; ComponentLink3Description: Packaging Specification; ComponentLink3URL: http://sg.renesas.com/media/products/common_info/package/pdf/transistor/code/pwsf0006ja_a.pdf
footprint PWSF0006JA-A (SOP, 6-Flat Leads, Body 2x1.7x0.8mm, Pitch 0.65mm)
pins: 1 S, 2 D, 3 D, 4 D, 5 D, 6 G

## HAT2203C
designator Q?
Silicon N-Channel MOSFET, Power Switching; Published: 30-Oct-2009; DatasheetVersion: Rev.4.00, May-2005; PackageVersion: Jul-2006; PackageReference: PWSF0006JA-A; Publisher: Altium Limited; PackageDescription: 6-Pin Plastic Dual Lead-Flat Package 0.65 mm Pitch (CMFPAK-6); ComponentLink1Description: Manufacturer Link; ComponentLink1URL: http://sg.renesas.com/fmwk.jsp?cnt=discrete_category_landing.jsp&fp=/products/discrete/; ComponentLink2Description: Datasheet; ComponentLink2URL: http://documentation.renesas.com/eng/products/transistor/rej03g0447_hat2203c.pdf; ComponentLink3Description: Packaging Specification; ComponentLink3URL: http://sg.renesas.com/media/products/common_info/package/pdf/transistor/code/pwsf0006ja_a.pdf
footprint PWSF0006JA-A (SOP, 6-Flat Leads, Body 2x1.7x0.8mm, Pitch 0.65mm)
pins: 1 S, 2 D, 3 D, 4 D, 5 D, 6 G

## HAT2204C
designator Q?
Silicon N-Channel MOSFET, Power Switching; Published: 30-Oct-2009; DatasheetVersion: Rev.5.00, May-2007; PackageVersion: Jul-2006; PackageReference: PWSF0006JA-A; Publisher: Altium Limited; PackageDescription: 6-Pin Plastic Dual Lead-Flat Package 0.65 mm Pitch (CMFPAK-6); ComponentLink1Description: Manufacturer Link; ComponentLink1URL: http://sg.renesas.com/fmwk.jsp?cnt=discrete_category_landing.jsp&fp=/products/discrete/; ComponentLink2Description: Datasheet; ComponentLink2URL: http://documentation.renesas.com/eng/products/transistor/rej03g0448_hat2204c.pdf; ComponentLink3Description: Packaging Specification; ComponentLink3URL: http://sg.renesas.com/media/products/common_info/package/pdf/transistor/code/pwsf0006ja_a.pdf
footprint PWSF0006JA-A (SOP, 6-Flat Leads, Body 2x1.7x0.8mm, Pitch 0.65mm)
pins: 1 S, 2 D, 3 D, 4 D, 5 D, 6 G

## HAT2205C
designator Q?
Silicon N-Channel MOSFET, Power Switching; Published: 30-Oct-2009; DatasheetVersion: Rev.4.00, Jan-2006; PackageVersion: Jul-2006; PackageReference: PWSF0006JA-A; Publisher: Altium Limited; PackageDescription: 6-Pin Plastic Dual Lead-Flat Package 0.65 mm Pitch (CMFPAK-6); ComponentLink1Description: Manufacturer Link; ComponentLink1URL: http://sg.renesas.com/fmwk.jsp?cnt=discrete_category_landing.jsp&fp=/products/discrete/; ComponentLink2Description: Datasheet; ComponentLink2URL: http://documentation.renesas.com/eng/products/transistor/rej03g1237_hat2205c.pdf; ComponentLink3Description: Packaging Specification; ComponentLink3URL: http://sg.renesas.com/media/products/common_info/package/pdf/transistor/code/pwsf0006ja_a.pdf
footprint PWSF0006JA-A (SOP, 6-Flat Leads, Body 2x1.7x0.8mm, Pitch 0.65mm)
pins: 1 S, 2 D, 3 D, 4 D, 5 D, 6 G

## HAT2206C
designator Q?
Silicon N-Channel MOSFET, Power Switching; Published: 30-Oct-2009; DatasheetVersion: Rev.5.00, Jan-2006; PackageVersion: Jul-2006; PackageReference: PWSF0006JA-A; Publisher: Altium Limited; PackageDescription: 6-Pin Plastic Dual Lead-Flat Package 0.65 mm Pitch (CMFPAK-6); ComponentLink1Description: Manufacturer Link; ComponentLink1URL: http://sg.renesas.com/fmwk.jsp?cnt=discrete_category_landing.jsp&fp=/products/discrete/; ComponentLink2Description: Datasheet; ComponentLink2URL: http://documentation.renesas.com/eng/products/transistor/rej03g1238_hat2206c.pdf; ComponentLink3Description: Packaging Specification; ComponentLink3URL: http://sg.renesas.com/media/products/common_info/package/pdf/transistor/code/pwsf0006ja_a.pdf
footprint PWSF0006JA-A (SOP, 6-Flat Leads, Body 2x1.7x0.8mm, Pitch 0.65mm)
pins: 1 S, 2 D, 3 D, 4 D, 5 D, 6 G

## HAT2207C
designator Q?
Silicon N-Channel MOSFET, Power Switching; Published: 30-Oct-2009; DatasheetVersion: Rev.6.00, Feb-2006; PackageVersion: Jul-2006; PackageReference: PWSF0006JA-A; Publisher: Altium Limited; PackageDescription: 6-Pin Plastic Dual Lead-Flat Package 0.65 mm Pitch (CMFPAK-6); ComponentLink1Description: Manufacturer Link; ComponentLink1URL: http://sg.renesas.com/fmwk.jsp?cnt=discrete_category_landing.jsp&fp=/products/discrete/; ComponentLink2Description: Datasheet; ComponentLink2URL: http://documentation.renesas.com/eng/products/transistor/rej03g1239_hat2207c.pdf; ComponentLink3Description: Packaging Specification; ComponentLink3URL: http://sg.renesas.com/media/products/common_info/package/pdf/transistor/code/pwsf0006ja_a.pdf
footprint PWSF0006JA-A (SOP, 6-Flat Leads, Body 2x1.7x0.8mm, Pitch 0.65mm)
pins: 1 S, 2 D, 3 D, 4 D, 5 D, 6 G

## HAT2208R
designator Q?
Silicon N-Channel Power MOSFET, Power Switching; Published: 30-Oct-2009; DatasheetVersion: Rev.2.00, Oct-2007; PackageVersion: Sep-2005; PackageReference: PRSP0008DD-D; Publisher: Altium Limited; PackageDescription: 8-Pin Plastic Small Outline Integrated Circuit 1.27 mm Pitch (SOP-8); Supplier 1: Digi-Key; Supplier Part Number 1: HAT2208R-ND; Code_IPC: SOIC127P600-8; ComponentLink1Description: Manufacturer Link; ComponentLink1URL: http://sg.renesas.com/fmwk.jsp?cnt=discrete_category_landing.jsp&fp=/products/discrete/; ComponentLink2Description: Datasheet; ComponentLink2URL: http://documentation.renesas.com/eng/products/transistor/rej03g1595_hat2208rds.pdf; ComponentLink3Description: Packaging Specification; ComponentLink3URL: http://sg.renesas.com/media/products/common_info/package/pdf/transistor/code/prsp0008dd_d.pdf
footprint PRSP0008DD-D_N (SOIC, 8-Leads, Body 4.9x3.95mm, Pitch 1.27mm, IPC Medium Density)
footprint PRSP0008DD-D_L (SOIC, 8-Leads, Body 4.9x3.95mm, Pitch 1.27mm, IPC High Density)
footprint PRSP0008DD-D_M (SOIC, 8-Leads, Body 4.9x3.95mm, Pitch 1.27mm, IPC Low Density)
pins: 1 S, 2 S, 3 S, 4 G, 5 D, 6 D, 7 D, 8 D

## HAT2210R
designator Q?
Silicon N-Channel Power MOSFET with Schottky Barrier Diode, High Speed Power Switching; Published: 30-Oct-2009; DatasheetVersion: Rev.3.00, Mar-2005; PackageVersion: Sep-2005; PackageReference: PRSP0008DD-A; Publisher: Altium Limited; PackageDescription: 8-Pin Plastic Small Outline Integrated Circuit 1.27 mm Pitch (SOP-8); Supplier 1: Digi-Key; Supplier Part Number 1: HAT2210R-ND; Code_IPC: SOIC127P600-8; ComponentLink1Description: Manufacturer Link; ComponentLink1URL: http://sg.renesas.com/fmwk.jsp?cnt=discrete_category_landing.jsp&fp=/products/discrete/; ComponentLink2Description: Datasheet; ComponentLink2URL: http://documentation.renesas.com/eng/products/transistor/rej03g0578_hat2210rrj.pdf; ComponentLink3Description: Packaging Specification; ComponentLink3URL: http://sg.renesas.com/media/products/common_info/package/pdf/transistor/code/prsp0008dd_a.pdf
footprint PRSP0008DD-A_N (SOIC, 8-Leads, Body 4.9x3.95mm, Pitch 1.27mm, IPC Medium Density)
footprint PRSP0008DD-A_L (SOIC, 8-Leads, Body 4.9x3.95mm, Pitch 1.27mm, IPC High Density)
footprint PRSP0008DD-A_M (SOIC, 8-Leads, Body 4.9x3.95mm, Pitch 1.27mm, IPC Low Density)
part A pins: 1 S, 2 G, 7 D, 8 D
part B pins: 3 S, 4 G, 5 D, 6 D

## HAT2215R
designator Q?
Silicon N-Channel MOSFET, High Speed Power Switching; Published: 30-Oct-2009; DatasheetVersion: Rev.3.00, Dec-2004; PackageVersion: Sep-2005; PackageReference: PRSP0008DD-A; Publisher: Altium Limited; PackageDescription: 8-Pin Plastic Small Outline Integrated Circuit 1.27 mm Pitch (SOP-8); Code_IPC: SOIC127P600-8; ComponentLink1Description: Manufacturer Link; ComponentLink1URL: http://sg.renesas.com/fmwk.jsp?cnt=discrete_category_landing.jsp&fp=/products/discrete/; ComponentLink2Description: Datasheet; ComponentLink2URL: http://documentation.renesas.com/eng/products/transistor/rej03g0486_hat2215rrj.pdf; ComponentLink3Description: Packaging Specification; ComponentLink3URL: http://sg.renesas.com/media/products/common_info/package/pdf/transistor/code/prsp0008dd_a.pdf
footprint PRSP0008DD-A_N (SOIC, 8-Leads, Body 4.9x3.95mm, Pitch 1.27mm, IPC Medium Density)
footprint PRSP0008DD-A_L (SOIC, 8-Leads, Body 4.9x3.95mm, Pitch 1.27mm, IPC High Density)
footprint PRSP0008DD-A_M (SOIC, 8-Leads, Body 4.9x3.95mm, Pitch 1.27mm, IPC Low Density)
part A pins: 1 S, 2 G, 7 D, 8 D
part B pins: 3 S, 4 G, 5 D, 6 D

## HAT2217C
designator Q?
Silicon N-Channel MOSFET, Power Switching; Published: 30-Oct-2009; DatasheetVersion: Rev.3.00, May-2005; PackageVersion: Jul-2006; PackageReference: PWSF0006JA-A; Publisher: Altium Limited; PackageDescription: 6-Pin Plastic Dual Lead-Flat Package 0.65 mm Pitch (CMFPAK-6); ComponentLink1Description: Manufacturer Link; ComponentLink1URL: http://sg.renesas.com/fmwk.jsp?cnt=discrete_category_landing.jsp&fp=/products/discrete/; ComponentLink2Description: Datasheet; ComponentLink2URL: http://documentation.renesas.com/eng/products/transistor/rej03g0449_hat2217c.pdf; ComponentLink3Description: Packaging Specification; ComponentLink3URL: http://sg.renesas.com/media/products/common_info/package/pdf/transistor/code/pwsf0006ja_a.pdf
footprint PWSF0006JA-A (SOP, 6-Flat Leads, Body 2x1.7x0.8mm, Pitch 0.65mm)
pins: 1 S, 2 D, 3 D, 4 D, 5 D, 6 G

## HAT2218R
designator Q?
Silicon N-Channel Power MOSFET with Schottky Barrier Diode, High Speed Power Switching; Published: 30-Oct-2009; DatasheetVersion: Rev.3.00, Aug-2004; PackageVersion: Sep-2005; PackageReference: PRSP0008DD-A; Publisher: Altium Limited; PackageDescription: 8-Pin Plastic Small Outline Integrated Circuit 1.27 mm Pitch (SOP-8); Code_IPC: SOIC127P600-8; ComponentLink1Description: Manufacturer Link; ComponentLink1URL: http://sg.renesas.com/fmwk.jsp?cnt=discrete_category_landing.jsp&fp=/products/discrete/; ComponentLink2Description: Datasheet; ComponentLink2URL: http://documentation.renesas.com/eng/products/transistor/rej03g0396_hat2218r.pdf; ComponentLink3Description: Packaging Specification; ComponentLink3URL: http://sg.renesas.com/media/products/common_info/package/pdf/transistor/code/prsp0008dd_a.pdf
footprint PRSP0008DD-A_N (SOIC, 8-Leads, Body 4.9x3.95mm, Pitch 1.27mm, IPC Medium Density)
footprint PRSP0008DD-A_L (SOIC, 8-Leads, Body 4.9x3.95mm, Pitch 1.27mm, IPC High Density)
footprint PRSP0008DD-A_M (SOIC, 8-Leads, Body 4.9x3.95mm, Pitch 1.27mm, IPC Low Density)
pins: 1 S1/D2, 2 G1, 3 S2, 4 G2, 5 S1/D2, 6 S1/D2, 7 D1, 8 D1

## HAT2220R
designator Q?
Silicon N-Channel MOSFET, High Speed Power Switching; Published: 30-Oct-2009; DatasheetVersion: Rev.5.00, Jul-2007; PackageVersion: Sep-2005; PackageReference: PRSP0008DD-D; Publisher: Altium Limited; PackageDescription: 8-Pin Plastic Small Outline Integrated Circuit 1.27 mm Pitch (SOP-8); Code_IPC: SOIC127P600-8; ComponentLink1Description: Manufacturer Link; ComponentLink1URL: http://sg.renesas.com/fmwk.jsp?cnt=discrete_category_landing.jsp&fp=/products/discrete/; ComponentLink2Description: Datasheet; ComponentLink2URL: http://documentation.renesas.com/eng/products/transistor/rej03g1572_hat2220rds.pdf; ComponentLink3Description: Packaging Specification; ComponentLink3URL: http://sg.renesas.com/media/products/common_info/package/pdf/transistor/code/prsp0008dd_d.pdf
footprint PRSP0008DD-D_N (SOIC, 8-Leads, Body 4.9x3.95mm, Pitch 1.27mm, IPC Medium Density)
footprint PRSP0008DD-D_L (SOIC, 8-Leads, Body 4.9x3.95mm, Pitch 1.27mm, IPC High Density)
footprint PRSP0008DD-D_M (SOIC, 8-Leads, Body 4.9x3.95mm, Pitch 1.27mm, IPC Low Density)
part A pins: 1 S, 2 G, 7 D, 8 D
part B pins: 3 S, 4 G, 5 D, 6 D

## HAT2221C
designator Q?
Silicon N-Channel MOSFET, Power Switching; Published: 30-Oct-2009; DatasheetVersion: Rev.4.00, Feb-2006; PackageVersion: Jul-2006; PackageReference: PWSF0006JA-A; Publisher: Altium Limited; PackageDescription: 6-Pin Plastic Dual Lead-Flat Package 0.65 mm Pitch (CMFPAK-6); ComponentLink1Description: Manufacturer Link; ComponentLink1URL: http://sg.renesas.com/fmwk.jsp?cnt=discrete_category_landing.jsp&fp=/products/discrete/; ComponentLink2Description: Datasheet; ComponentLink2URL: http://documentation.renesas.com/eng/products/transistor/rej03g1240_hat2221c.pdf; ComponentLink3Description: Packaging Specification; ComponentLink3URL: http://sg.renesas.com/media/products/common_info/package/pdf/transistor/code/pwsf0006ja_a.pdf
footprint PWSF0006JA-A (SOP, 6-Flat Leads, Body 2x1.7x0.8mm, Pitch 0.65mm)
pins: 1 S, 2 D, 3 D, 4 D, 5 D, 6 G

## HAT2226R
designator Q?
Silicon N-Channel MOSFET, High Speed Power Switching; Published: 30-Oct-2009; DatasheetVersion: Rev.1.00, Jul-2006; PackageVersion: Sep-2005; PackageReference: PRSP0008DD-D; Publisher: Altium Limited; PackageDescription: 8-Pin Plastic Small Outline Integrated Circuit 1.27 mm Pitch (SOP-8); Code_IPC: SOIC127P600-8; ComponentLink1Description: Manufacturer Link; ComponentLink1URL: http://sg.renesas.com/fmwk.jsp?cnt=discrete_category_landing.jsp&fp=/products/discrete/; ComponentLink2Description: Datasheet; ComponentLink2URL: http://documentation.renesas.com/eng/products/transistor/rej03g1466_hat2226rds.pdf; ComponentLink3Description: Packaging Specification; ComponentLink3URL: http://sg.renesas.com/media/products/common_info/package/pdf/transistor/code/prsp0008dd_d.pdf
footprint PRSP0008DD-D_N (SOIC, 8-Leads, Body 4.9x3.95mm, Pitch 1.27mm, IPC Medium Density)
footprint PRSP0008DD-D_L (SOIC, 8-Leads, Body 4.9x3.95mm, Pitch 1.27mm, IPC High Density)
footprint PRSP0008DD-D_M (SOIC, 8-Leads, Body 4.9x3.95mm, Pitch 1.27mm, IPC Low Density)
pins: 1 S, 2 S, 3 S, 4 G, 5 D, 6 D, 7 D, 8 D

## HAT2240C
designator Q?
Silicon N-Channel MOSFET, Power Switching; Published: 30-Oct-2009; DatasheetVersion: Rev.4.00, Apr-2006; PackageVersion: Jul-2006; PackageReference: PWSF0006JA-A; Publisher: Altium Limited; PackageDescription: 6-Pin Plastic Dual Lead-Flat Package 0.65 mm Pitch (CMFPAK-6); ComponentLink1Description: Manufacturer Link; ComponentLink1URL: http://sg.renesas.com/fmwk.jsp?cnt=discrete_category_landing.jsp&fp=/products/discrete/; ComponentLink2Description: Datasheet; ComponentLink2URL: http://documentation.renesas.com/eng/products/transistor/rej03g1241_hat2240c.pdf; ComponentLink3Description: Packaging Specification; ComponentLink3URL: http://sg.renesas.com/media/products/common_info/package/pdf/transistor/code/pwsf0006ja_a.pdf
footprint PWSF0006JA-A (SOP, 6-Flat Leads, Body 2x1.7x0.8mm, Pitch 0.65mm)
pins: 1 S, 2 D, 3 D, 4 D, 5 D, 6 G

## HAT2244WP
designator Q?
Silicon N-Channel Power MOSFET, Power Switching; Published: 30-Oct-2009; DatasheetVersion: Rev.4.00, Jun-2007; PackageVersion: Feb-2006; PackageReference: PWSN0008DA-A; Publisher: Altium Limited; PackageDescription: 8-Pin Plastic Very-very Thin Small Outline No Lead Package, 5.1 x 6.1 x 0.8mm Body, 1.27mm Pitch (WPAK); ComponentLink1Description: Manufacturer Link; ComponentLink1URL: http://sg.renesas.com/fmwk.jsp?cnt=discrete_category_landing.jsp&fp=/products/discrete/; ComponentLink2Description: Datasheet; ComponentLink2URL: http://documentation.renesas.com/eng/products/transistor/rej03g1549_hat2244wpds.pdf; ComponentLink3Description: Packaging Specification; ComponentLink3URL: http://sg.renesas.com/media/products/common_info/package/pdf/transistor/code/pwsn0008da_a.pdf
footprint PWSN0008DA-A (SON, 8-Leads, Body 5.1x6.1mm, Pitch 1.27mm, Heatsink)
pins: 1 S, 2 S, 3 S, 4 G, 5 D, 6 D, 7 D, 8 D

## HAT2266H
designator Q?
Silicon N-Channel Power MOSFET, Power Switching; Published: 30-Oct-2009; DatasheetVersion: Rev.5.00, Apr-2006; PackageVersion: Sep-2005; PackageReference: PTZZ0005DA-A; Publisher: Altium Limited; PackageDescription: 5-Pin Plastic Transistor Outline Package 4 x 4.9 mm Body (LFPAK); Supplier 1: Digi-Key; Supplier Part Number 1: HAT2266H-ND; Code_JEITA: SC-100; ComponentLink1Description: Manufacturer Link; ComponentLink1URL: http://sg.renesas.com/fmwk.jsp?cnt=discrete_category_landing.jsp&fp=/products/discrete/; ComponentLink2Description: Datasheet; ComponentLink2URL: http://documentation.renesas.com/eng/products/transistor/rej03g1370_hat2266hds.pdf; ComponentLink3Description: Packaging Specification; ComponentLink3URL: http://sg.renesas.com/media/products/common_info/package/pdf/transistor/code/ptzz0005da_a.pdf
footprint PTZZ0005DA-A_N (TO, 5-Leads, Body 4x4.9mm, Pitch 1.27mm, Lead Span 6mm, IPC Medium Density)
footprint PTZZ0005DA-A_L (TO, 5-Leads, Body 4x4.9mm, Pitch 1.27mm, Lead Span 6mm, IPC High Density)
footprint PTZZ0005DA-A_M (TO, 5-Leads, Body 4x4.9mm, Pitch 1.27mm, Lead Span 6mm, IPC Low Density)
pins: 1 S, 2 S, 3 S, 4 G, 5 D

## HAT2267H
designator Q?
Silicon N-Channel Power MOSFET, Power Switching; Published: 30-Oct-2009; DatasheetVersion: Rev.4.00, Jul-2006; PackageVersion: Sep-2005; PackageReference: PTZZ0005DA-A; Publisher: Altium Limited; PackageDescription: 5-Pin Plastic Transistor Outline Package 4 x 4.9 mm Body (LFPAK); Code_JEITA: SC-100; ComponentLink1Description: Manufacturer Link; ComponentLink1URL: http://sg.renesas.com/fmwk.jsp?cnt=discrete_category_landing.jsp&fp=/products/discrete/; ComponentLink2Description: Datasheet; ComponentLink2URL: http://documentation.renesas.com/eng/products/transistor/rej03g1463_hat2267hds.pdf; ComponentLink3Description: Packaging Specification; ComponentLink3URL: http://sg.renesas.com/media/products/common_info/package/pdf/transistor/code/ptzz0005da_a.pdf
footprint PTZZ0005DA-A_N (TO, 5-Leads, Body 4x4.9mm, Pitch 1.27mm, Lead Span 6mm, IPC Medium Density)
footprint PTZZ0005DA-A_L (TO, 5-Leads, Body 4x4.9mm, Pitch 1.27mm, Lead Span 6mm, IPC High Density)
footprint PTZZ0005DA-A_M (TO, 5-Leads, Body 4x4.9mm, Pitch 1.27mm, Lead Span 6mm, IPC Low Density)
pins: 1 S, 2 S, 3 S, 4 G, 5 D

## HAT2268C
designator Q?
Silicon N-Channel MOSFET, Power Switching; Published: 30-Oct-2009; DatasheetVersion: Rev.2.00, Feb-2006; PackageVersion: Jul-2006; PackageReference: PWSF0006JA-A; Publisher: Altium Limited; PackageDescription: 6-Pin Plastic Dual Lead-Flat Package 0.65 mm Pitch (CMFPAK-6); ComponentLink1Description: Manufacturer Link; ComponentLink1URL: http://sg.renesas.com/fmwk.jsp?cnt=discrete_category_landing.jsp&fp=/products/discrete/; ComponentLink2Description: Datasheet; ComponentLink2URL: http://documentation.renesas.com/eng/products/transistor/rej03g1354_hat2268cds.pdf; ComponentLink3Description: Packaging Specification; ComponentLink3URL: http://sg.renesas.com/media/products/common_info/package/pdf/transistor/code/pwsf0006ja_a.pdf
footprint PWSF0006JA-A (SOP, 6-Flat Leads, Body 2x1.7x0.8mm, Pitch 0.65mm)
pins: 1 S, 2 D, 3 D, 4 D, 5 D, 6 G

## HAT2279H
designator Q?
Silicon N-Channel Power MOSFET, Power Switching; Published: 30-Oct-2009; DatasheetVersion: Rev.2.00, Jul-2006; PackageVersion: Sep-2005; PackageReference: PTZZ0005DA-A; Publisher: Altium Limited; PackageDescription: 5-Pin Plastic Transistor Outline Package 4 x 4.9 mm Body (LFPAK); Code_JEITA: SC-100; ComponentLink1Description: Manufacturer Link; ComponentLink1URL: http://sg.renesas.com/fmwk.jsp?cnt=discrete_category_landing.jsp&fp=/products/discrete/; ComponentLink2Description: Datasheet; ComponentLink2URL: http://documentation.renesas.com/eng/products/transistor/rej03g1464_hat2279hds.pdf; ComponentLink3Description: Packaging Specification; ComponentLink3URL: http://sg.renesas.com/media/products/common_info/package/pdf/transistor/code/ptzz0005da_a.pdf
footprint PTZZ0005DA-A_N (TO, 5-Leads, Body 4x4.9mm, Pitch 1.27mm, Lead Span 6mm, IPC Medium Density)
footprint PTZZ0005DA-A_L (TO, 5-Leads, Body 4x4.9mm, Pitch 1.27mm, Lead Span 6mm, IPC High Density)
footprint PTZZ0005DA-A_M (TO, 5-Leads, Body 4x4.9mm, Pitch 1.27mm, Lead Span 6mm, IPC Low Density)
pins: 1 S, 2 S, 3 S, 4 G, 5 D

## HAT2279N
designator Q?
Silicon N-Channel Power MOSFET, Power Switching; Published: 30-Oct-2009; DatasheetVersion: Rev.3.00, Oct-2007; PackageVersion: Jul-2006; PackageReference: PTSP0008DC-A; Publisher: Altium Limited; PackageDescription: 8-Pin Plastic Small Outline Integrated Circuit 1.27 mm Pitch (LFPAK-i); ComponentLink1Description: Manufacturer Link; ComponentLink1URL: http://sg.renesas.com/fmwk.jsp?cnt=discrete_category_landing.jsp&fp=/products/discrete/; ComponentLink2Description: Datasheet; ComponentLink2URL: http://documentation.renesas.com/eng/products/transistor/rej03g1596_hat2279nds.pdf; ComponentLink3Description: Packaging Specification; ComponentLink3URL: http://sg.renesas.com/media/products/common_info/package/pdf/transistor/code/ptsp0008dc_a.pdf
footprint PTSP0008DC-A_N (SOIC, 8-Leads, Body 4.9x3.95mm, Pitch 1.27mm, IPC Medium Density)
footprint PTSP0008DC-A_L (SOIC, 8-Leads, Body 4.9x3.95mm, Pitch 1.27mm, IPC High Density)
footprint PTSP0008DC-A_M (SOIC, 8-Leads, Body 4.9x3.95mm, Pitch 1.27mm, IPC Low Density)
pins: 1 S, 2 S, 3 S, 4 G, 5 D, 6 D, 7 D, 8 D

## HAT2281C
designator Q?
Silicon N-Channel MOSFET, Power Switching; Published: 30-Oct-2009; DatasheetVersion: Rev.2.00, Jan-2006; PackageVersion: Jul-2006; PackageReference: PWSF0006JA-A; Publisher: Altium Limited; PackageDescription: 6-Pin Plastic Dual Lead-Flat Package 0.65 mm Pitch (CMFPAK-6); ComponentLink1Description: Manufacturer Link; ComponentLink1URL: http://sg.renesas.com/fmwk.jsp?cnt=discrete_category_landing.jsp&fp=/products/discrete/; ComponentLink2Description: Datasheet; ComponentLink2URL: http://documentation.renesas.com/eng/products/transistor/rej03g1328_hat2281cds.pdf; ComponentLink3Description: Packaging Specification; ComponentLink3URL: http://sg.renesas.com/media/products/common_info/package/pdf/transistor/code/pwsf0006ja_a.pdf
footprint PWSF0006JA-A (SOP, 6-Flat Leads, Body 2x1.7x0.8mm, Pitch 0.65mm)
pins: 1 S, 2 D, 3 D, 4 D, 5 D, 6 G

## HAT2282C
designator Q?
Silicon N-Channel MOSFET, Power Switching; Published: 30-Oct-2009; DatasheetVersion: Rev.1.00, Jan-2006; PackageVersion: Jul-2006; PackageReference: PWSF0006JA-A; Publisher: Altium Limited; PackageDescription: 6-Pin Plastic Dual Lead-Flat Package 0.65 mm Pitch (CMFPAK-6); ComponentLink1Description: Manufacturer Link; ComponentLink1URL: http://sg.renesas.com/fmwk.jsp?cnt=discrete_category_landing.jsp&fp=/products/discrete/; ComponentLink2Description: Datasheet; ComponentLink2URL: http://documentation.renesas.com/eng/products/transistor/rej03g1329_hat2282cds.pdf; ComponentLink3Description: Packaging Specification; ComponentLink3URL: http://sg.renesas.com/media/products/common_info/package/pdf/transistor/code/pwsf0006ja_a.pdf
footprint PWSF0006JA-A (SOP, 6-Flat Leads, Body 2x1.7x0.8mm, Pitch 0.65mm)
pins: 1 S, 2 D, 3 D, 4 D, 5 D, 6 G